# Altium footprint library DK2A-24V Relays.PcbLib: 2 footprints
Each footprint in its own frame and in the unit in brackets; x right, y up, seen from the top. Pads: shape width x height; smd on the part's side, far side on the other; paste and mask are expansions set on the pad; w line width, h text height; cw(c..) or ccw(c..) is an arc to the next point about the centre after c.
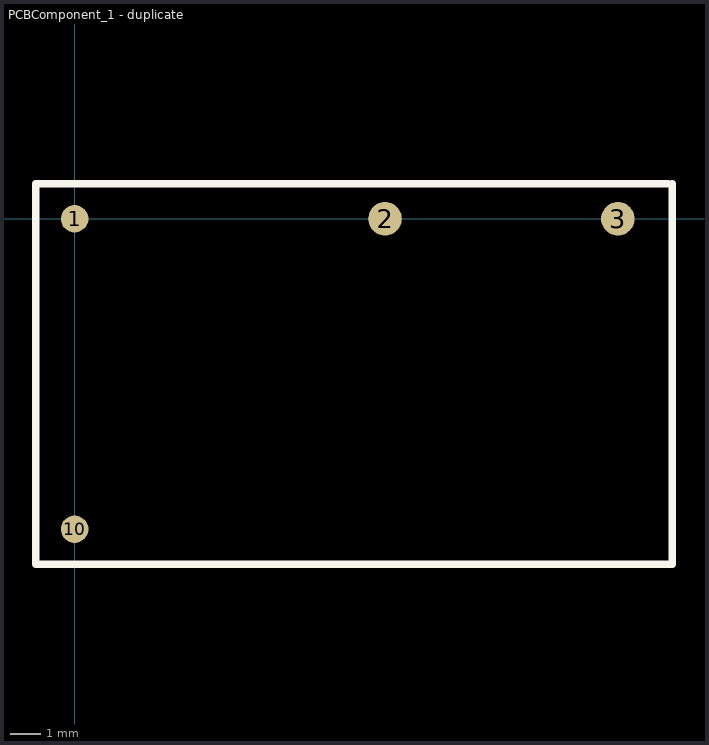
[diagram p0: the footprints below, top view; thin cyan lines are the x and y axes]

## PCBComponent_1 [mm]

## PCBComponent_1 - duplicate [mm]
height 9.7
pads (4):
  round 0.9 smd: 1(0,0) 10(0,-10.16)
  round 1.1 smd: 2(10.16,0) 3(17.78,0)
Top Overlay:
  lines w0.254: 19.431,1.143 -1.27,1.143 -1.27,-11.303 19.558,-11.303 19.558,1.143